# EAGLE library part SLG46400V (library GREENPAK)
GreenPAK2 SLG46400V Silego Technology www.silego.com
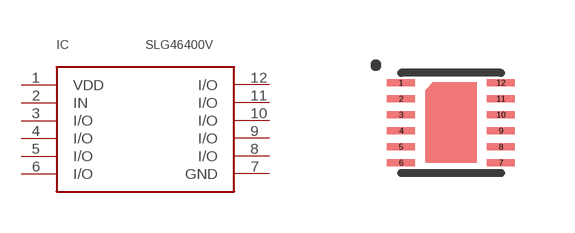
[diagram p1: symbol with the pads of TDFN-12; footprint TDFN-12]

Designator prefix IC

## SLG46400V  [TDFN-12]
1  VDD  pwr
2  IN  in
3  I/O
4  I/O
5  I/O
6  I/O
7  GND
8  I/O
9  I/O
10  I/O
11  I/O
12  I/O

## Footprint TDFN-12 (pad centres in mm)
12 Lead TDFN Package 2.5mm x 2.5mm
smd 0.7 x 0.18: 1 -1.255,0.968; 2 -1.255,0.568; 3 -1.255,0.17; 4 -1.254,-0.23; 5 -1.255,-0.631; 6 -1.255,-1.03; 7 1.245,-1.031; 8 1.244,-0.633; 9 1.244,-0.231; 10 1.245,0.171; 11 1.246,0.57; 12 1.245,0.97